# Altium footprint library Transistores.PcbLib: 4 footprints
Each footprint in its own frame and in the unit in brackets; x right, y up, seen from the top. Pads: shape width x height; smd on the part's side, far side on the other; paste and mask are expansions set on the pad; w line width, h text height; cw(c..) or ccw(c..) is an arc to the next point about the centre after c.
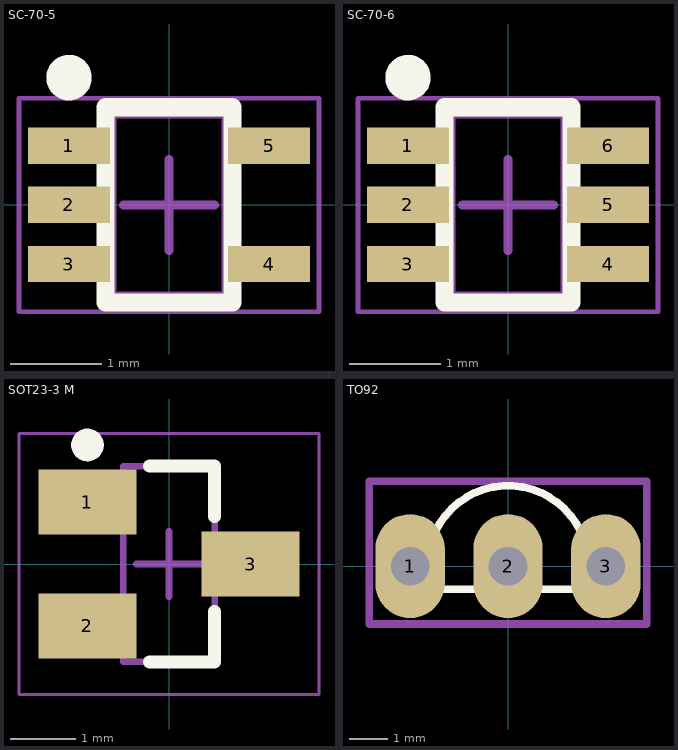
[diagram p0: the footprints below, top view; thin cyan lines are the x and y axes]

## SC-70-5 [mm] "SOT23, 5-Leads, Body 2x1.25mm, Pitch 0.65mm"
height 1.1
pads (5):
  rect 0.9x0.4 smd: 1(-1.1,0.65) 2(-1.1,0) 3(-1.1,-0.65) 4(1.1,-0.65) 5(1.1,0.65)
Top Overlay:
  circle w0.25: c-1.1,1.4 r0.125
  lines w0.2: -0.7,-1.075 0.7,-1.075 0.7,1.075 -0.7,1.075 -0.7,-1.075
Mechanical 13:
  lines w0.1: -0.625,-1 -0.625,1 0.625,1 0.625,-1 -0.625,-1
Mechanical 15:
  lines w0.05: -1.65,-1.175 -1.65,1.175 1.65,1.175 1.65,-1.175 -1.65,-1.175
  lines w0.1: -0.5,0 0.5,0 ; 0,-0.5 0,0.5
3D body: height 1.1, standoff 0, extent -0.625,-1 0.625,1

## SC-70-6 [mm] "SOT23, 5-Leads, Body 2x1.25mm, Pitch 0.65mm"
height 1.1
pads (6):
  rect 0.9x0.4 smd: 1(-1.1,0.65) 2(-1.1,0) 3(-1.1,-0.65) 4(1.1,-0.65) 5(1.1,0) 6(1.1,0.65)
Top Overlay:
  circle w0.25: c-1.1,1.4 r0.125
  lines w0.2: -0.7,-1.075 0.7,-1.075 0.7,1.075 -0.7,1.075 -0.7,-1.075
Mechanical 13:
  lines w0.1: -0.625,-1 -0.625,1 0.625,1 0.625,-1 -0.625,-1
Mechanical 15:
  lines w0.05: -1.65,-1.175 -1.65,1.175 1.65,1.175 1.65,-1.175 -1.65,-1.175
  lines w0.1: -0.5,0 0.5,0 ; 0,-0.5 0,0.5
3D body "sc-70-6.step": height 1.09, standoff -0.01, extent -1.06,-1 1.061,1

## SOT23-3 M [mm] "SOT23, 3-Leads, Body 2,90x2,30mm, Pitch 0,95mm, IPC Low Density"
height 1.1
pads (3):
  rect 1.5x1 smd: 1(-1.25,0.95) 2(-1.25,-0.95) 3(1.25,0)
Top Overlay:
  circle w0.25: c-1.25,1.825 r0.125
  lines w0.2: -0.3,-1.5 0.7,-1.5 0.7,-0.725 ; -0.3,1.5 0.7,1.5 0.7,0.725
Mechanical 13:
  lines w0.1: -0.7,-1.5 -0.7,1.5 0.7,1.5 0.7,-1.5 -0.7,-1.5
Mechanical 15:
  lines w0.05: -2.3,-2 -2.3,2 2.3,2 2.3,-2 -2.3,-2
  lines w0.1: -0.5,0 0.5,0 ; 0,-0.5 0,0.5
3D body "SOT95P230X110-3M.step": height 1.1, standoff 0, extent -1.3,-1.5 1.3,1.5

## TO92 [mm]
pads (3):
  oval 1.8x2.7 hole 1: 1(-2.54,0) 2(0,0) 3(2.54,0)
Top Overlay:
  lines w0.2: -2,-0.6 cw(c0,0) 2,-0.6 -2,-0.6
Mechanical 15:
  lines w0.1: -0.2,0.35 0.2,0.35 ; 0,0.15 0,0.55
  lines w0.2: -3.6,-1.5 -3.6,2.2 3.6,2.2 3.6,-1.5 -3.6,-1.5
Mechanical 29:
  text "1" at -3.2,1.4 h0.5
  text ".Designator" at -3.4,2.6 h0.5
3D body "TO92.STEP": height 6.83, standoff -1.9, extent -2.74,-0.568 2.74,2.04